# Altium schematic symbol library Atmega32U2.SchLib: 4 symbols
Pins are listed as number, name and electrical type; pins without a type are passive.

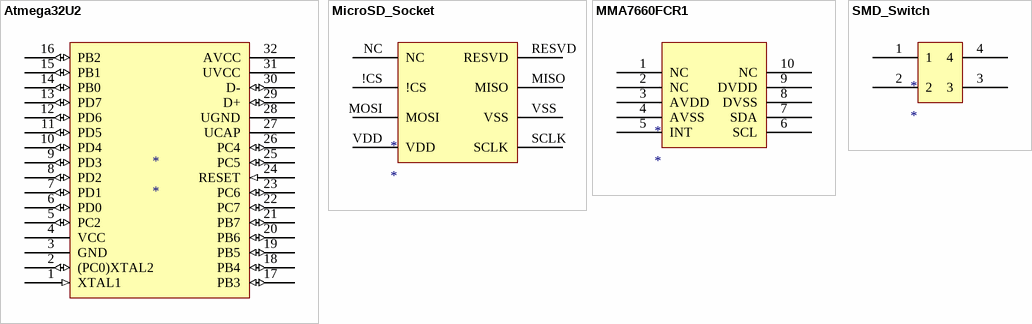
[diagram p0: symbols Atmega32U2 to SMD_Switch]

## Atmega32U2
designator *
pins: 1 XTAL1 (in), 2 (PC0)XTAL2 (io), 3 GND (power), 4 VCC (power), 5 PC2 (io), 6 PD0 (io), 7 PD1 (io), 8 PD2 (io), 9 PD3 (io), 10 PD4 (io), 11 PD5 (io), 12 PD6 (io), 13 PD7 (io), 14 PB0 (io), 15 PB1 (io), 16 PB2 (io), 17 PB3 (io), 18 PB4 (io), 19 PB5 (io), 20 PB6 (io), 21 PB7 (io), 22 PC7 (io), 23 PC6 (io), 24 RESET (in), 25 PC5 (io), 26 PC4 (io), 27 UCAP (power), 28 UGND (power), 29 D+ (io), 30 D- (io), 31 UVCC (power), 32 AVCC (power)

## MicroSD_Socket
designator *
footprint microSD Socket
pins: !CS, MISO, MOSI, NC, RESVD, SCLK, VDD, VSS

## MMA7660FCR1
designator *
footprint DFN-10__MMA7660FCR1 (DFN, 10-Leads, Body 3.0x3.0mm (max), Pitch 0.50mm, IPC Medium Density)
pins: 1 NC, 2 NC, 3 AVDD, 4 AVSS, 5 INT, 6 SCL, 7 SDA, 8 DVSS, 9 DVDD, 10 NC

## SMD_Switch
designator *
pins: 1, 2, 3, 4